# Altium schematic symbol library 155.SchLib: 8 symbols
Pins are listed as number, name and electrical type; pins without a type are passive.

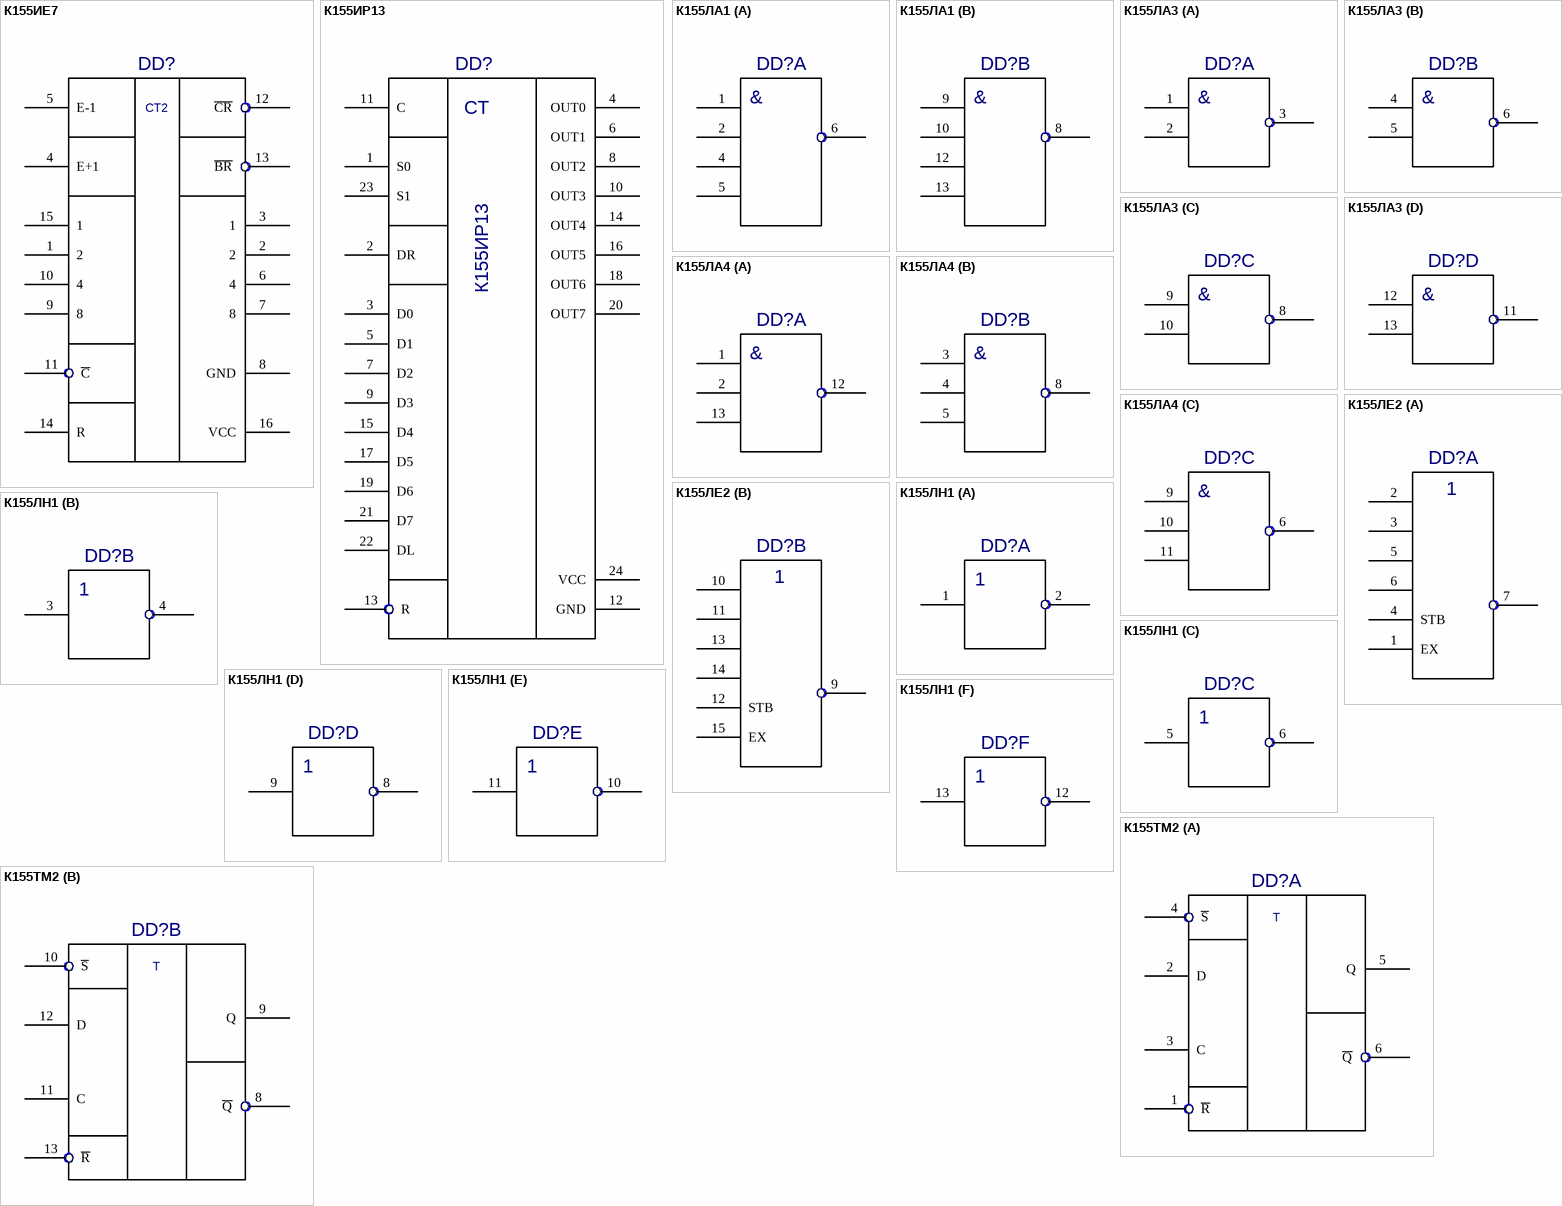
[diagram p0: symbols К155ИЕ7 to К155ТМ2]

## К155ИЕ7
designator DD?  (value not drawn)
Author: pcbdesigner.ru; Value: *
footprint 238.16-1
pins: 1 2, 2, 3 1, 4 E+1, 5 E-1, 6 4, 7 8, 8 GND, 9 8, 10 4, 11 ~{C}, 12 ~{CR}, 13 ~{BR}, 14 R, 15 1, 16 VCC
text: CT2

## К155ИР13
designator DD?
Value: *
footprint 2120-24
pins: 1 S0, 2 DR, 3 D0, 4 OUT0, 5 D1, 6 OUT1, 7 D2, 8 OUT2, 9 D3, 10 OUT3, 11 C, 12 GND, 13 R, 14 OUT4, 15 D4, 16 OUT5, 17 D5, 18 OUT6, 19 D6, 20 OUT7, 21 D7, 22 DL, 23 S1, 24 VCC
text: CT

## К155ЛА1
designator DD?  (value not drawn)
Value: *
footprint 201.14-1
pins on every part: 3 hidden, 7 GND (power) hidden, 11 hidden, 14 VCC (power) hidden
part A pins: 1, 2, 4, 5, 6
part B pins: 8 6, 9 1, 10 2, 12 4, 13 5
part A text: &
part B text: &

## К155ЛА3
designator DD?  (value not drawn)
Value: *
footprint 201.14-1
pins on every part: 7 GND (power) hidden, 14 VCC (power) hidden
part A pins: 1, 2, 3
part B pins: 4 1, 5 2, 6 3
part C pins: 8 3, 9 1, 10 2
part D pins: 11 3, 12 1, 13 2
part A text: &
part B text: &
part C text: &
part D text: &

## К155ЛА4
designator DD?  (value not drawn)
Value: *
footprint 201.14-1
pins on every part: 7 GND (power) hidden, 14 VCC (power) hidden
part A pins: 1 3, 2 4, 12 6, 13 5
part B pins: 3, 4, 5, 8 6
part C pins: 6, 9 3, 10 4, 11 5
part A text: &
part B text: &
part C text: &

## К155ЛЕ2
designator DD?  (value not drawn)
Value: *
footprint 238.16-1
pins on every part: 8 GND (power) hidden, 16 VCC (power) hidden
part A pins: 1 EX, 2, 3, 4 STB, 5, 6, 7
part B pins: 9 7, 10 2, 11 3, 12 STB, 13 5, 14 6, 15 EX

## К155ЛН1
designator DD?  (value not drawn)
Value: *
footprint 201.14-1
pins on every part: 7 GND (power) hidden, 14 VCC (power) hidden
part A pins: 1, 2
part B pins: 3 1, 4 2
part C pins: 5 1, 6 2
part D pins: 8 2, 9 1
part E pins: 10 2, 11 1
part F pins: 12 2, 13 1

## К155ТМ2
designator DD?  (value not drawn)
Author: pcbdesigner.ru; Value: *
footprint 201.14-1
pins on every part: 7 GND (power) hidden, 14 VCC (power) hidden
part A pins: 1 ~{R}, 2 D, 3 C, 4 ~{S}, 5 Q, 6 ~{Q}
part B pins: 8 ~{Q}, 9 Q, 10 ~{S}, 11 C, 12 D, 13 ~{R}
part A text: T
part B text: T